# Altium integrated library Texas Instruments Power Management PWM Controller.IntLib: 1227 symbols (part 16 of 49)
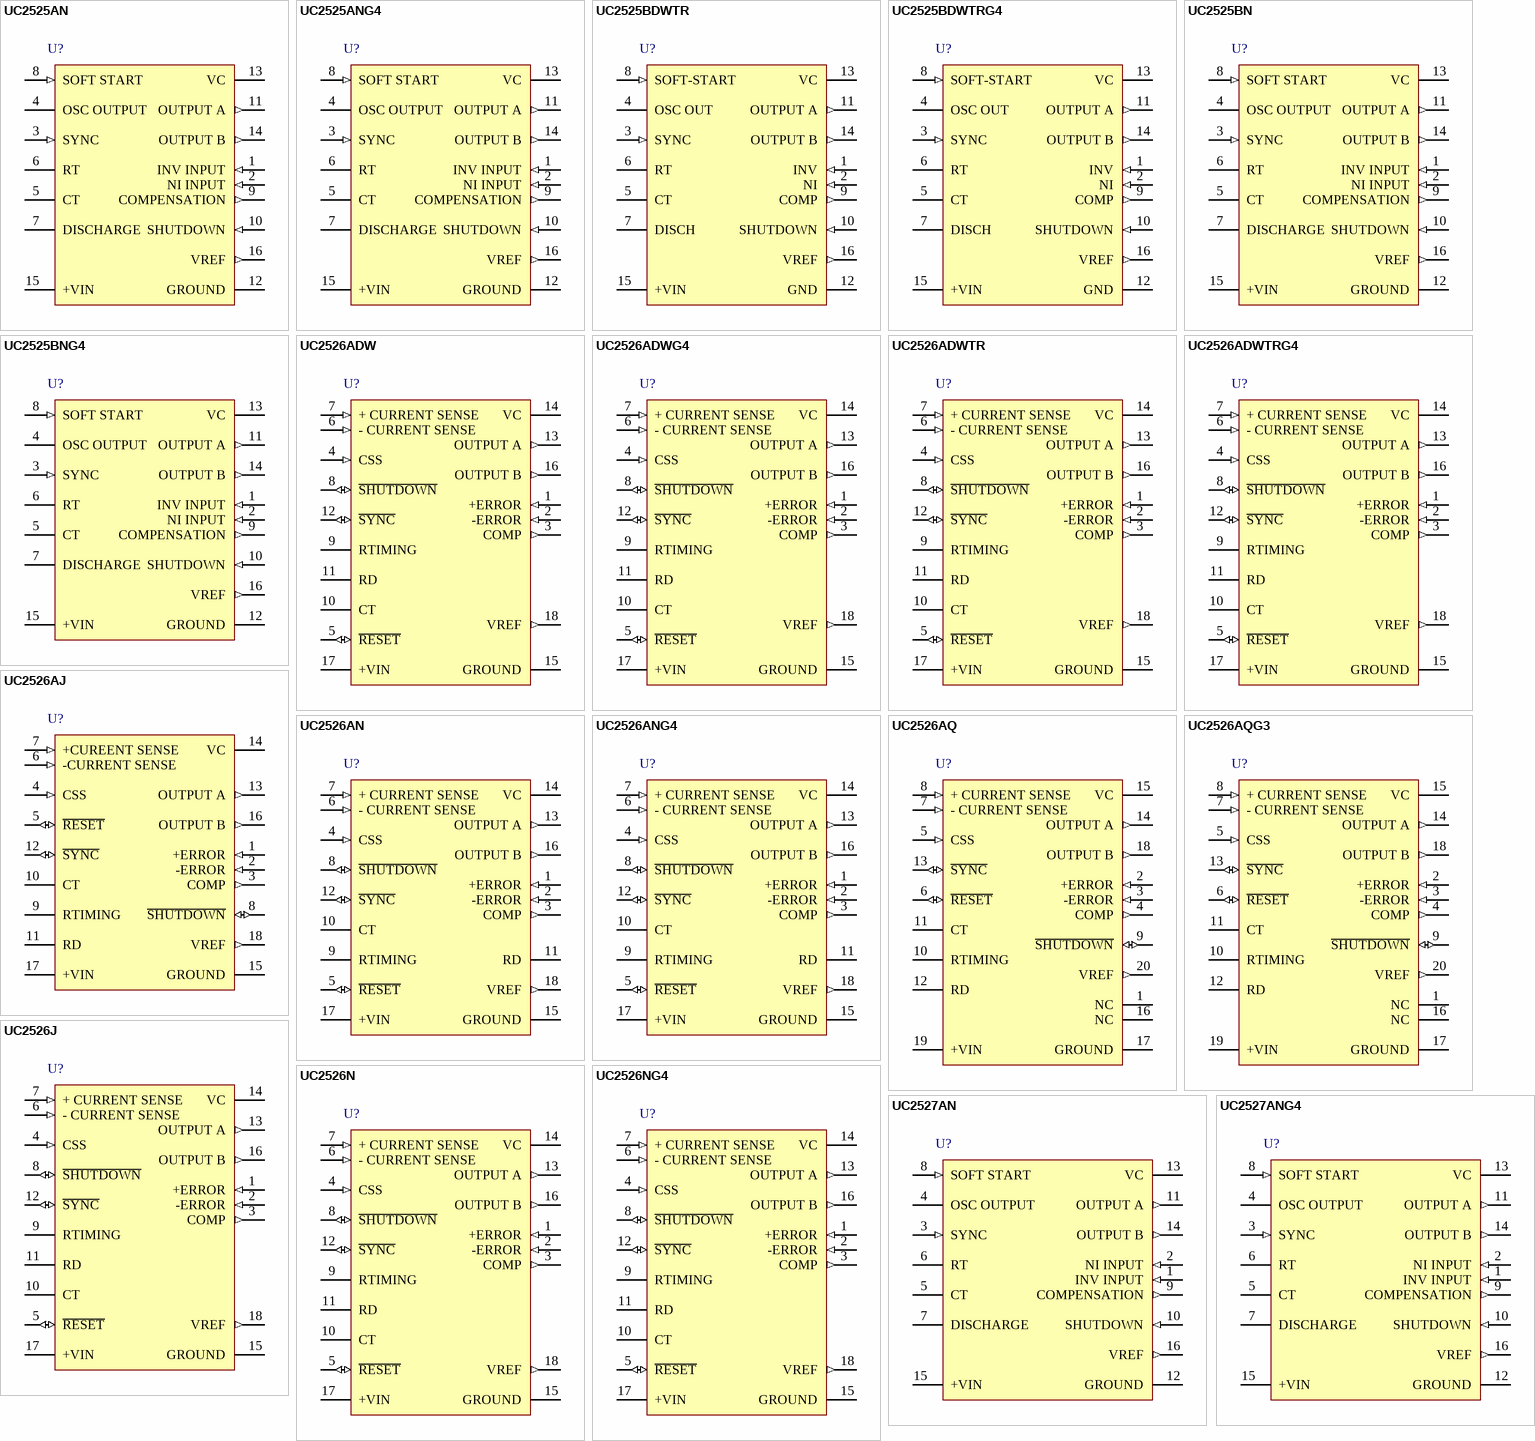
[diagram p58: symbols UC2525AN to UC2527ANG4]

## UC2525AN
designator U?
Regulating Pulse Width Modulator with Voltage Control, 50 % Duty Cycle, -25 to +85 degC, 16-pin PDIP (N), Green (RoHS & no Sb/Br); PartNumber: UC2525AN; Manufacturer: Texas Instruments; Duty Cycle(Max)(%): 50; Frequency(Max)(kHz): 450; Rating: Military; Regulated Outputs(#): 2; SubFamily: PWM Controller; Topology: Boost, Flyback, Forward, Full-Bridge, Half-Bridge, Push-Pull; DatasheetVersion: SLUS191C; PackageVersion: revE, Dec-2002; PackageReference: N16; PackageDescription: 16-Pin Plastic Dual-In-Line Package, Row Spacing 7.62 mm, Pitch 2.54 mm; Supplier 1: Digi-Key; Supplier Part Number 1: 296-11154-5-ND; Supplier 2: Farnell; Supplier Part Number 2: 1534732; Supplier 3: Newark; Supplier Part Number 3: 77C2790; Supplier 4: Mouser; Supplier Part Number 4: 595-UC2525AN; Control Method: Voltage; Eco-Plan: Green (RoHS & no Sb/Br); UVLO Thresholds On/Off(V): 7/6.8; Mounting Technology: Through Hole; Code_JEDEC: MS-001*; ComponentLink1Description: Datasheet; ComponentLink1URL: http://www.ti.com/general/docs/lit/getliterature.tsp?genericPartNumber=UC2525A&fileType=pdf
footprint N16 (DIP, 16-Leads, Row Spacing 7.62mm, Pitch 2.54mm, Body 19.3x6.4mm)
pins: 1 INV INPUT (in), 2 NI INPUT (in), 3 SYNC (in), 4 OSC OUTPUT, 5 CT, 6 RT, 7 DISCHARGE (oc), 8 SOFT START (in), 9 COMPENSATION (out), 10 SHUTDOWN (in), 11 OUTPUT A (out), 12 GROUND (power), 13 VC (power), 14 OUTPUT B (out), 15 +VIN (power), 16 VREF (out)

## UC2525ANG4
designator U?
Regulating Pulse Width Modulator with Voltage Control, 50 % Duty Cycle, -25 to +85 degC, 16-pin PDIP (N), Green (RoHS & no Sb/Br); PartNumber: UC2525ANG4; Manufacturer: Texas Instruments; Duty Cycle(Max)(%): 50; Frequency(Max)(kHz): 450; Rating: Military; Regulated Outputs(#): 2; SubFamily: PWM Controller; Topology: Boost, Flyback, Forward, Full-Bridge, Half-Bridge, Push-Pull; DatasheetVersion: SLUS191C; PackageVersion: revE, Dec-2002; PackageReference: N16; PackageDescription: 16-Pin Plastic Dual-In-Line Package, Row Spacing 7.62 mm, Pitch 2.54 mm; Supplier 1: Digi-Key; Supplier Part Number 1: UC2525ANG4-ND; Supplier 2: Farnell; Supplier Part Number 2: 1234761; Supplier 3: Newark; Supplier Part Number 3: 13M3363; Supplier 4: Newark; Supplier Part Number 4: 80K3524; Supplier 5: Mouser; Supplier Part Number 5: 595-UC2525ANG4; Control Method: Voltage; Eco-Plan: Green (RoHS & no Sb/Br); UVLO Thresholds On/Off(V): 7/6.8; Mounting Technology: Through Hole; Code_JEDEC: MS-001*; ComponentLink1Description: Datasheet; ComponentLink1URL: http://www.ti.com/general/docs/lit/getliterature.tsp?genericPartNumber=UC2525A&fileType=pdf
footprint N16 (DIP, 16-Leads, Row Spacing 7.62mm, Pitch 2.54mm, Body 19.3x6.4mm)
pins: 1 INV INPUT (in), 2 NI INPUT (in), 3 SYNC (in), 4 OSC OUTPUT, 5 CT, 6 RT, 7 DISCHARGE (oc), 8 SOFT START (in), 9 COMPENSATION (out), 10 SHUTDOWN (in), 11 OUTPUT A (out), 12 GROUND (power), 13 VC (power), 14 OUTPUT B (out), 15 +VIN (power), 16 VREF (out)

## UC2525BDWTR
designator U?
Regulating Pulse Width Modulator with Voltage Control, 50 % Duty Cycle, -25 to +85 degC, 16-pin SOIC (DW), Green (RoHS & no Sb/Br); PartNumber: UC2525BDWTR; Manufacturer: Texas Instruments; Duty Cycle(Max)(%): 50; Frequency(Max)(kHz): 450; Rating: Catalog; Regulated Outputs(#): 2; SubFamily: PWM Controller; Topology: Boost, Flyback, Forward, Full-Bridge, Half-Bridge, Push-Pull; DatasheetVersion: SLUS376; PackageVersion: revG, Jan-2011; PackageReference: DW16; PackageDescription: 16-Pin Small Outline Integrated Circuit, 10.3 x 7.5 mm, Pitch 1.27 mm Pitch; Supplier 1: Digi-Key; Supplier Part Number 1: UC2525BDWTR-ND; Supplier 2: Newark; Supplier Part Number 2: 77C2794; Supplier 3: Mouser; Supplier Part Number 3: 595-UC2525BDWTR; Control Method: Voltage; Eco-Plan: Green (RoHS & no Sb/Br); UVLO Thresholds On/Off(V): 7/6.8; Mounting Technology: Surface Mount; Code_JEDEC: MS-013-AA; ComponentLink1Description: Datasheet; ComponentLink1URL: http://www.ti.com/general/docs/lit/getliterature.tsp?genericPartNumber=UC2525B&fileType=pdf
footprint DW16_N (SOIC, 16-Leads, Body 10.3x7.5mm, Pitch 1.27mm, IPC Medium Density)
footprint DW16_L (SOIC, 16-Leads, Body 10.3x7.5mm, Pitch 1.27mm, IPC High Density)
footprint DW16_M (SOIC, 16-Leads, Body 10.3x7.5mm, Pitch 1.27mm, IPC Low Density)
pins: 1 INV (in), 2 NI (in), 3 SYNC (in), 4 OSC OUT, 5 CT, 6 RT, 7 DISCH (oc), 8 SOFT-START (in), 9 COMP (out), 10 SHUTDOWN (in), 11 OUTPUT A (out), 12 GND (power), 13 VC (power), 14 OUTPUT B (out), 15 +VIN (power), 16 VREF (out)

## UC2525BDWTRG4
designator U?
Regulating Pulse Width Modulator with Voltage Control, 50 % Duty Cycle, -25 to +85 degC, 16-pin SOIC (DW), Green (RoHS & no Sb/Br); PartNumber: UC2525BDWTRG4; Manufacturer: Texas Instruments; Duty Cycle(Max)(%): 50; Frequency(Max)(kHz): 450; Rating: Catalog; Regulated Outputs(#): 2; SubFamily: PWM Controller; Topology: Boost, Flyback, Forward, Full-Bridge, Half-Bridge, Push-Pull; DatasheetVersion: SLUS376; PackageVersion: revG, Jan-2011; PackageReference: DW16; PackageDescription: 16-Pin Small Outline Integrated Circuit, 10.3 x 7.5 mm, Pitch 1.27 mm Pitch; Supplier 1: Digi-Key; Supplier Part Number 1: UC2525BDWTRG4-ND; Supplier 2: Newark; Supplier Part Number 2: 63K6662; Supplier 3: Mouser; Supplier Part Number 3: 595-UC2525BDWTRG4; Control Method: Voltage; Eco-Plan: Green (RoHS & no Sb/Br); UVLO Thresholds On/Off(V): 7/6.8; Mounting Technology: Surface Mount; Code_JEDEC: MS-013-AA; ComponentLink1Description: Datasheet; ComponentLink1URL: http://www.ti.com/general/docs/lit/getliterature.tsp?genericPartNumber=UC2525B&fileType=pdf
footprint DW16_N (SOIC, 16-Leads, Body 10.3x7.5mm, Pitch 1.27mm, IPC Medium Density)
footprint DW16_L (SOIC, 16-Leads, Body 10.3x7.5mm, Pitch 1.27mm, IPC High Density)
footprint DW16_M (SOIC, 16-Leads, Body 10.3x7.5mm, Pitch 1.27mm, IPC Low Density)
pins: 1 INV (in), 2 NI (in), 3 SYNC (in), 4 OSC OUT, 5 CT, 6 RT, 7 DISCH (oc), 8 SOFT-START (in), 9 COMP (out), 10 SHUTDOWN (in), 11 OUTPUT A (out), 12 GND (power), 13 VC (power), 14 OUTPUT B (out), 15 +VIN (power), 16 VREF (out)

## UC2525BN
designator U?
Regulating Pulse Width Modulator with Voltage Control, 50 % Duty Cycle, -25 to +85 degC, 16-pin PDIP (N), Green (RoHS & no Sb/Br); PartNumber: UC2525BN; Manufacturer: Texas Instruments; Duty Cycle(Max)(%): 50; Frequency(Max)(kHz): 450; Rating: Military; Regulated Outputs(#): 2; SubFamily: PWM Controller; Topology: Boost, Flyback, Forward, Full-Bridge, Half-Bridge, Push-Pull; DatasheetVersion: SLUS191C; PackageVersion: revE, Dec-2002; PackageReference: N16; PackageDescription: 16-Pin Plastic Dual-In-Line Package, Row Spacing 7.62 mm, Pitch 2.54 mm; Supplier 1: Digi-Key; Supplier Part Number 1: 296-34703-5-ND; Supplier 2: Newark; Supplier Part Number 2: 77C2795; Supplier 3: Mouser; Supplier Part Number 3: 595-UC2525BN; Control Method: Voltage; Eco-Plan: Green (RoHS & no Sb/Br); UVLO Thresholds On/Off(V): 7/6.8; Mounting Technology: Through Hole; Code_JEDEC: MS-001*; ComponentLink1Description: Datasheet; ComponentLink1URL: http://www.ti.com/general/docs/lit/getliterature.tsp?genericPartNumber=UC2525A&fileType=pdf
footprint N16 (DIP, 16-Leads, Row Spacing 7.62mm, Pitch 2.54mm, Body 19.3x6.4mm)
pins: 1 INV INPUT (in), 2 NI INPUT (in), 3 SYNC (in), 4 OSC OUTPUT, 5 CT, 6 RT, 7 DISCHARGE (oc), 8 SOFT START (in), 9 COMPENSATION (out), 10 SHUTDOWN (in), 11 OUTPUT A (out), 12 GROUND (power), 13 VC (power), 14 OUTPUT B (out), 15 +VIN (power), 16 VREF (out)

## UC2525BNG4
designator U?
Regulating Pulse Width Modulator with Voltage Control, 50 % Duty Cycle, -25 to +85 degC, 16-pin PDIP (N), Green (RoHS & no Sb/Br); PartNumber: UC2525BNG4; Manufacturer: Texas Instruments; Duty Cycle(Max)(%): 50; Frequency(Max)(kHz): 450; Rating: Military; Regulated Outputs(#): 2; SubFamily: PWM Controller; Topology: Boost, Flyback, Forward, Full-Bridge, Half-Bridge, Push-Pull; DatasheetVersion: SLUS191C; PackageVersion: revE, Dec-2002; PackageReference: N16; PackageDescription: 16-Pin Plastic Dual-In-Line Package, Row Spacing 7.62 mm, Pitch 2.54 mm; Supplier 1: Digi-Key; Supplier Part Number 1: UC2525BNG4-ND; Supplier 2: Newark; Supplier Part Number 2: 54K2246; Supplier 3: Mouser; Supplier Part Number 3: 595-UC2525BNG4; Control Method: Voltage; Eco-Plan: Green (RoHS & no Sb/Br); UVLO Thresholds On/Off(V): 7/6.8; Mounting Technology: Through Hole; Code_JEDEC: MS-001*; ComponentLink1Description: Datasheet; ComponentLink1URL: http://www.ti.com/general/docs/lit/getliterature.tsp?genericPartNumber=UC2525A&fileType=pdf
footprint N16 (DIP, 16-Leads, Row Spacing 7.62mm, Pitch 2.54mm, Body 19.3x6.4mm)
pins: 1 INV INPUT (in), 2 NI INPUT (in), 3 SYNC (in), 4 OSC OUTPUT, 5 CT, 6 RT, 7 DISCHARGE (oc), 8 SOFT START (in), 9 COMPENSATION (out), 10 SHUTDOWN (in), 11 OUTPUT A (out), 12 GROUND (power), 13 VC (power), 14 OUTPUT B (out), 15 +VIN (power), 16 VREF (out)

## UC2526ADW
designator U?
Regulating Pulse Width Modulator with Voltage Control, 50 % Duty Cycle, -25 to +85 degC, 18-pin SOIC (DW), Green (RoHS & no Sb/Br); PartNumber: UC2526ADW; Manufacturer: Texas Instruments; Duty Cycle(Max)(%): 50; Frequency(Max)(kHz): 450; Rating: Military; Regulated Outputs(#): 2; SubFamily: PWM Controller; Topology: Boost, Flyback, Forward, Full-Bridge, Half-Bridge, Push-Pull; DatasheetVersion: SLUS187; PackageVersion: revG, Jan-2011; PackageReference: DW18; PackageDescription: 18-Pin Plastic Small Outline Integrated Circuit, 11.6 x 7.5 mm, Pitch 1.27 mm Pitch; Supplier 1: Digi-Key; Supplier Part Number 1: 296-11155-5-ND; Supplier 2: Newark; Supplier Part Number 2: 77C2796; Supplier 3: Mouser; Supplier Part Number 3: 595-UC2526ADW; Control Method: Voltage; Eco-Plan: Green (RoHS & no Sb/Br); UVLO Thresholds On/Off(V): 7/6.8; Mounting Technology: Surface Mount; Code_JEDEC: MS-013-AB; ComponentLink1Description: Datasheet; ComponentLink1URL: http://www.ti.com/general/docs/lit/getliterature.tsp?genericPartNumber=UC2526A&fileType=pdf
footprint DW18_N (SOIC, 18-Leads, Body 11.6x7.5mm, Pitch 1.27mm, IPC Medium Density)
footprint DW18_L (SOIC, 18-Leads, Body 11.6x7.5mm, Pitch 1.27mm, IPC High Density)
footprint DW18_M (SOIC, 18-Leads, Body 11.6x7.5mm, Pitch 1.27mm, IPC Low Density)
pins: 1 +ERROR (in), 2 -ERROR (in), 3 COMP (out), 4 CSS (in), 5 ~{RESET} (io), 6 - CURRENT SENSE (in), 7 + CURRENT SENSE (in), 8 ~{SHUTDOWN} (io), 9 RTIMING, 10 CT, 11 RD, 12 ~{SYNC} (io), 13 OUTPUT A (out), 14 VC (power), 15 GROUND (power), 16 OUTPUT B (out), 17 +VIN (power), 18 VREF (out)

## UC2526ADWG4
designator U?
Regulating Pulse Width Modulator with Voltage Control, 50 % Duty Cycle, -25 to +85 degC, 18-pin SOIC (DW), Green (RoHS & no Sb/Br); PartNumber: UC2526ADWG4; Manufacturer: Texas Instruments; Duty Cycle(Max)(%): 50; Frequency(Max)(kHz): 450; Rating: Military; Regulated Outputs(#): 2; SubFamily: PWM Controller; Topology: Boost, Flyback, Forward, Full-Bridge, Half-Bridge, Push-Pull; DatasheetVersion: SLUS187; PackageVersion: revG, Jan-2011; PackageReference: DW18; PackageDescription: 18-Pin Plastic Small Outline Integrated Circuit, 11.6 x 7.5 mm, Pitch 1.27 mm Pitch; Supplier 1: Digi-Key; Supplier Part Number 1: UC2526ADWG4-ND; Supplier 2: Farnell; Supplier Part Number 2: 1235018; Supplier 3: Newark; Supplier Part Number 3: 13M3364; Supplier 4: Newark; Supplier Part Number 4: 73K9687; Supplier 5: Mouser; Supplier Part Number 5: 595-UC2526ADWG4; Control Method: Voltage; Eco-Plan: Green (RoHS & no Sb/Br); UVLO Thresholds On/Off(V): 7/6.8; Mounting Technology: Surface Mount; Code_JEDEC: MS-013-AB; ComponentLink1Description: Datasheet; ComponentLink1URL: http://www.ti.com/general/docs/lit/getliterature.tsp?genericPartNumber=UC2526A&fileType=pdf
footprint DW18_N (SOIC, 18-Leads, Body 11.6x7.5mm, Pitch 1.27mm, IPC Medium Density)
footprint DW18_L (SOIC, 18-Leads, Body 11.6x7.5mm, Pitch 1.27mm, IPC High Density)
footprint DW18_M (SOIC, 18-Leads, Body 11.6x7.5mm, Pitch 1.27mm, IPC Low Density)
pins: 1 +ERROR (in), 2 -ERROR (in), 3 COMP (out), 4 CSS (in), 5 ~{RESET} (io), 6 - CURRENT SENSE (in), 7 + CURRENT SENSE (in), 8 ~{SHUTDOWN} (io), 9 RTIMING, 10 CT, 11 RD, 12 ~{SYNC} (io), 13 OUTPUT A (out), 14 VC (power), 15 GROUND (power), 16 OUTPUT B (out), 17 +VIN (power), 18 VREF (out)

## UC2526ADWTR
designator U?
Regulating Pulse Width Modulator with Voltage Control, 50 % Duty Cycle, -25 to +85 degC, 18-pin SOIC (DW), Green (RoHS & no Sb/Br); PartNumber: UC2526ADWTR; Manufacturer: Texas Instruments; Duty Cycle(Max)(%): 50; Frequency(Max)(kHz): 450; Rating: Military; Regulated Outputs(#): 2; SubFamily: PWM Controller; Topology: Boost, Flyback, Forward, Full-Bridge, Half-Bridge, Push-Pull; DatasheetVersion: SLUS187; PackageVersion: revG, Jan-2011; PackageReference: DW18; PackageDescription: 18-Pin Plastic Small Outline Integrated Circuit, 11.6 x 7.5 mm, Pitch 1.27 mm Pitch; Supplier 1: Digi-Key; Supplier Part Number 1: UC2526ADWTR-ND; Supplier 2: Newark; Supplier Part Number 2: 77C2797; Supplier 3: Mouser; Supplier Part Number 3: 595-UC2526ADWTR; Control Method: Voltage; Eco-Plan: Green (RoHS & no Sb/Br); UVLO Thresholds On/Off(V): 7/6.8; Mounting Technology: Surface Mount; Code_JEDEC: MS-013-AB; ComponentLink1Description: Datasheet; ComponentLink1URL: http://www.ti.com/general/docs/lit/getliterature.tsp?genericPartNumber=UC2526A&fileType=pdf
footprint DW18_N (SOIC, 18-Leads, Body 11.6x7.5mm, Pitch 1.27mm, IPC Medium Density)
footprint DW18_L (SOIC, 18-Leads, Body 11.6x7.5mm, Pitch 1.27mm, IPC High Density)
footprint DW18_M (SOIC, 18-Leads, Body 11.6x7.5mm, Pitch 1.27mm, IPC Low Density)
pins: 1 +ERROR (in), 2 -ERROR (in), 3 COMP (out), 4 CSS (in), 5 ~{RESET} (io), 6 - CURRENT SENSE (in), 7 + CURRENT SENSE (in), 8 ~{SHUTDOWN} (io), 9 RTIMING, 10 CT, 11 RD, 12 ~{SYNC} (io), 13 OUTPUT A (out), 14 VC (power), 15 GROUND (power), 16 OUTPUT B (out), 17 +VIN (power), 18 VREF (out)

## UC2526ADWTRG4
designator U?
Regulating Pulse Width Modulator with Voltage Control, 50 % Duty Cycle, -25 to +85 degC, 18-pin SOIC (DW), Green (RoHS & no Sb/Br); PartNumber: UC2526ADWTRG4; Manufacturer: Texas Instruments; Duty Cycle(Max)(%): 50; Frequency(Max)(kHz): 450; Rating: Military; Regulated Outputs(#): 2; SubFamily: PWM Controller; Topology: Boost, Flyback, Forward, Full-Bridge, Half-Bridge, Push-Pull; DatasheetVersion: SLUS187; PackageVersion: revG, Jan-2011; PackageReference: DW18; PackageDescription: 18-Pin Plastic Small Outline Integrated Circuit, 11.6 x 7.5 mm, Pitch 1.27 mm Pitch; Supplier 1: Digi-Key; Supplier Part Number 1: UC2526ADWTRG4-ND; Supplier 2: Newark; Supplier Part Number 2: 66K4892; Supplier 3: Mouser; Supplier Part Number 3: 595-UC2526ADWTRG4; Control Method: Voltage; Eco-Plan: Green (RoHS & no Sb/Br); UVLO Thresholds On/Off(V): 7/6.8; Mounting Technology: Surface Mount; Code_JEDEC: MS-013-AB; ComponentLink1Description: Datasheet; ComponentLink1URL: http://www.ti.com/general/docs/lit/getliterature.tsp?genericPartNumber=UC2526A&fileType=pdf
footprint DW18_N (SOIC, 18-Leads, Body 11.6x7.5mm, Pitch 1.27mm, IPC Medium Density)
footprint DW18_L (SOIC, 18-Leads, Body 11.6x7.5mm, Pitch 1.27mm, IPC High Density)
footprint DW18_M (SOIC, 18-Leads, Body 11.6x7.5mm, Pitch 1.27mm, IPC Low Density)
pins: 1 +ERROR (in), 2 -ERROR (in), 3 COMP (out), 4 CSS (in), 5 ~{RESET} (io), 6 - CURRENT SENSE (in), 7 + CURRENT SENSE (in), 8 ~{SHUTDOWN} (io), 9 RTIMING, 10 CT, 11 RD, 12 ~{SYNC} (io), 13 OUTPUT A (out), 14 VC (power), 15 GROUND (power), 16 OUTPUT B (out), 17 +VIN (power), 18 VREF (out)

## UC2526AJ
designator U?
Regulating Pulse Width Modulator with Voltage Control, 50 % Duty Cycle, -25 to +85 degC, 18-pin CDIP (J); PartNumber: UC2526AJ; Manufacturer: Texas Instruments; Duty Cycle(Max)(%): 50; Eco-Plan: TBD; Frequency(Max)(kHz): 450; Rating: Military; Regulated Outputs(#): 2; SubFamily: PWM Controller; Topology: Boost, Flyback, Forward, Full-Bridge, Half-Bridge, Push-Pull; DatasheetVersion: SLUS185; PackageVersion: revF, Mar-2003; PackageReference: J18; PackageDescription: 18-Pin, Ceramic Dual In-Line Package, Row Spacing 7.62 mm, Pitch 2.54 mm; Control Method: Voltage; UVLO Thresholds On/Off(V): 7/6.8; Mounting Technology: Through Hole; ComponentLink1Description: Datasheet; ComponentLink1URL: http://www.ti.com/general/docs/lit/getliterature.tsp?genericPartNumber=UC2526AM&fileType=pdf
footprint J18 (DIP, 18-Leads, Row Spacing 7.62mm, Pitch 2.54mm, Body 24.1x6.7mm)
pins: 1 +ERROR (in), 2 -ERROR (in), 3 COMP (out), 4 CSS (in), 5 ~{RESET} (io), 6 -CURRENT SENSE (in), 7 +CUREENT SENSE (in), 8 ~{SHUTDOWN} (io), 9 RTIMING, 10 CT, 11 RD, 12 ~{SYNC} (io), 13 OUTPUT A (out), 14 VC (power), 15 GROUND (power), 16 OUTPUT B (out), 17 +VIN (power), 18 VREF (out)

## UC2526AN
designator U?
Regulating Pulse Width Modulator with Voltage Control, 50 % Duty Cycle, -25 to +85 degC, 18-pin PDIP (N), Green (RoHS & no Sb/Br); PartNumber: UC2526AN; Manufacturer: Texas Instruments; Duty Cycle(Max)(%): 50; Frequency(Max)(kHz): 450; Rating: Military; Regulated Outputs(#): 2; SubFamily: PWM Controller; Topology: Boost, Flyback, Forward, Full-Bridge, Half-Bridge, Push-Pull; DatasheetVersion: SLUS187; PackageVersion: revE, Dec-2002; PackageReference: N18; PackageDescription: 18-Pin Plastic Dual-In-Line Package, Row Spacing 7.62 mm, Pitch 2.54 mm; Supplier 1: Digi-Key; Supplier Part Number 1: 296-11156-5-ND; Supplier 2: Newark; Supplier Part Number 2: 77C2798; Supplier 3: Mouser; Supplier Part Number 3: 595-UC2526AN; Control Method: Voltage; Eco-Plan: Green (RoHS & no Sb/Br); UVLO Thresholds On/Off(V): 7/6.8; Mounting Technology: Through Hole; Code_JEDEC: MS-001-AC*; ComponentLink1Description: Datasheet; ComponentLink1URL: http://www.ti.com/general/docs/lit/getliterature.tsp?genericPartNumber=UC2526A&fileType=pdf
footprint N18 (DIP, 18-Leads, Row Spacing 7.62mm, Pitch 2.54mm, Body 22.5x6.4mm)
pins: 1 +ERROR (in), 2 -ERROR (in), 3 COMP (out), 4 CSS (in), 5 ~{RESET} (io), 6 - CURRENT SENSE (in), 7 + CURRENT SENSE (in), 8 ~{SHUTDOWN} (io), 9 RTIMING, 10 CT, 11 RD, 12 ~{SYNC} (io), 13 OUTPUT A (out), 14 VC (power), 15 GROUND (power), 16 OUTPUT B (out), 17 +VIN (power), 18 VREF (out)

## UC2526ANG4
designator U?
Regulating Pulse Width Modulator with Voltage Control, 50 % Duty Cycle, -25 to +85 degC, 18-pin PDIP (N), Green (RoHS & no Sb/Br); PartNumber: UC2526ANG4; Manufacturer: Texas Instruments; Duty Cycle(Max)(%): 50; Frequency(Max)(kHz): 450; Rating: Military; Regulated Outputs(#): 2; SubFamily: PWM Controller; Topology: Boost, Flyback, Forward, Full-Bridge, Half-Bridge, Push-Pull; DatasheetVersion: SLUS187; PackageVersion: revE, Dec-2002; PackageReference: N18; PackageDescription: 18-Pin Plastic Dual-In-Line Package, Row Spacing 7.62 mm, Pitch 2.54 mm; Supplier 1: Digi-Key; Supplier Part Number 1: UC2526ANG4-ND; Supplier 2: Farnell; Supplier Part Number 2: 1234774; Supplier 3: Newark; Supplier Part Number 3: 13M3365; Supplier 4: Newark; Supplier Part Number 4: 54K2247; Supplier 5: Mouser; Supplier Part Number 5: 595-UC2526ANG4; Control Method: Voltage; Eco-Plan: Green (RoHS & no Sb/Br); UVLO Thresholds On/Off(V): 7/6.8; Mounting Technology: Through Hole; Code_JEDEC: MS-001-AC*; ComponentLink1Description: Datasheet; ComponentLink1URL: http://www.ti.com/general/docs/lit/getliterature.tsp?genericPartNumber=UC2526A&fileType=pdf
footprint N18 (DIP, 18-Leads, Row Spacing 7.62mm, Pitch 2.54mm, Body 22.5x6.4mm)
pins: 1 +ERROR (in), 2 -ERROR (in), 3 COMP (out), 4 CSS (in), 5 ~{RESET} (io), 6 - CURRENT SENSE (in), 7 + CURRENT SENSE (in), 8 ~{SHUTDOWN} (io), 9 RTIMING, 10 CT, 11 RD, 12 ~{SYNC} (io), 13 OUTPUT A (out), 14 VC (power), 15 GROUND (power), 16 OUTPUT B (out), 17 +VIN (power), 18 VREF (out)

## UC2526AQ
designator U?
Regulating Pulse Width Modulator with Voltage Control, 50 % Duty Cycle, -25 to +85 degC, 18-pin PLCC (FN), Green (RoHS & no Sb/Br); PartNumber: UC2526AQ; Manufacturer: Texas Instruments; Duty Cycle(Max)(%): 50; Frequency(Max)(kHz): 450; Rating: Military; Regulated Outputs(#): 2; SubFamily: PWM Controller; Topology: Boost, Flyback, Forward, Full-Bridge, Half-Bridge, Push-Pull; DatasheetVersion: SLUS187; PackageVersion: revB, Mar-1995; PackageReference: FN20; PackageDescription: 20-Pin Plastic Leaded Chip Carrier, 1.27 mm Pitch; Supplier 1: Digi-Key; Supplier Part Number 1: UC2526AQ-ND; Supplier 2: Newark; Supplier Part Number 2: 77C2799; Supplier 3: Mouser; Supplier Part Number 3: 595-UC2526AQ; Control Method: Voltage; Eco-Plan: Green (RoHS & no Sb/Br); UVLO Thresholds On/Off(V): 7/6.8; Mounting Technology: Surface Mount; Code_JEDEC: MS-018; ComponentLink1Description: Datasheet; ComponentLink1URL: http://www.ti.com/general/docs/lit/getliterature.tsp?genericPartNumber=UC2526A&fileType=pdf
footprint FN20_N (Leaded Chip Carrier, 20-Leads, Body 9x9mm, Pitch 1.27mm, IPC Medium Density)
footprint FN20_L (Leaded Chip Carrier, 20-Leads, Body 9x9mm, Pitch 1.27mm, IPC High Density)
footprint FN20_M (Leaded Chip Carrier, 20-Leads, Body 9x9mm, Pitch 1.27mm, IPC Low Density)
pins: 1 NC, 2 +ERROR (in), 3 -ERROR (in), 4 COMP (out), 5 CSS (in), 6 ~{RESET} (io), 7 - CURRENT SENSE (in), 8 + CURRENT SENSE (in), 9 ~{SHUTDOWN} (io), 10 RTIMING, 11 CT, 12 RD, 13 ~{SYNC} (io), 14 OUTPUT A (out), 15 VC (power), 16 NC, 17 GROUND (power), 18 OUTPUT B (out), 19 +VIN (power), 20 VREF (out)

## UC2526AQG3
designator U?
Regulating Pulse Width Modulator with Voltage Control, 50 % Duty Cycle, -25 to +85 degC, 20-pin PLCC (FN), Green (RoHS & no Sb/Br); PartNumber: UC2526AQG3; Manufacturer: Texas Instruments; Duty Cycle(Max)(%): 50; Frequency(Max)(kHz): 450; Rating: Military; Regulated Outputs(#): 2; SubFamily: PWM Controller; Topology: Boost, Flyback, Forward, Full-Bridge, Half-Bridge, Push-Pull; DatasheetVersion: SLUS187; PackageVersion: revB, Mar-1995; PackageReference: FN20; PackageDescription: 20-Pin Plastic Leaded Chip Carrier, 1.27 mm Pitch; Supplier 1: Digi-Key; Supplier Part Number 1: UC2526AQG3-ND; Supplier 2: Newark; Supplier Part Number 2: 70K5947; Supplier 3: Mouser; Supplier Part Number 3: 595-UC2526AQG3; Control Method: Voltage; Eco-Plan: Green (RoHS & no Sb/Br); UVLO Thresholds On/Off(V): 7/6.8; Mounting Technology: Surface Mount; Code_JEDEC: MS-018; ComponentLink1Description: Datasheet; ComponentLink1URL: http://www.ti.com/general/docs/lit/getliterature.tsp?genericPartNumber=UC2526A&fileType=pdf
footprint FN20_N (Leaded Chip Carrier, 20-Leads, Body 9x9mm, Pitch 1.27mm, IPC Medium Density)
footprint FN20_L (Leaded Chip Carrier, 20-Leads, Body 9x9mm, Pitch 1.27mm, IPC High Density)
footprint FN20_M (Leaded Chip Carrier, 20-Leads, Body 9x9mm, Pitch 1.27mm, IPC Low Density)
pins: 1 NC, 2 +ERROR (in), 3 -ERROR (in), 4 COMP (out), 5 CSS (in), 6 ~{RESET} (io), 7 - CURRENT SENSE (in), 8 + CURRENT SENSE (in), 9 ~{SHUTDOWN} (io), 10 RTIMING, 11 CT, 12 RD, 13 ~{SYNC} (io), 14 OUTPUT A (out), 15 VC (power), 16 NC, 17 GROUND (power), 18 OUTPUT B (out), 19 +VIN (power), 20 VREF (out)

## UC2526J
designator U?
Regulating Pulse Width Modulator with Voltage Control, 50 % Duty Cycle, -25 to +85 degC, 18-pin CDIP (J); PartNumber: UC2526J; Manufacturer: Texas Instruments; Duty Cycle(Max)(%): 50; Eco-Plan: TBD; Frequency(Max)(kHz): 450; Rating: military; Regulated Outputs(#): 2; SubFamily: PWM Controller; Topology: Boost, Flyback, Forward, Full-Bridge, Half-Bridge, Push-Pull; DatasheetVersion: SLUS187; PackageVersion: revF, Mar-2003; PackageReference: J18; PackageDescription: 18-Pin, Ceramic Dual In-Line Package, Row Spacing 7.62 mm, Pitch 2.54 mm; Control Method: Voltage; UVLO Thresholds On/Off(V): 7/6.8; Mounting Technology: Through Hole; ComponentLink1Description: Datasheet; ComponentLink1URL: http://www.ti.com/general/docs/lit/getliterature.tsp?genericPartNumber=UC2526M&fileType=pdf
footprint J18 (DIP, 18-Leads, Row Spacing 7.62mm, Pitch 2.54mm, Body 24.1x6.7mm)
pins: 1 +ERROR (in), 2 -ERROR (in), 3 COMP (out), 4 CSS (in), 5 ~{RESET} (io), 6 - CURRENT SENSE (in), 7 + CURRENT SENSE (in), 8 ~{SHUTDOWN} (io), 9 RTIMING, 10 CT, 11 RD, 12 ~{SYNC} (io), 13 OUTPUT A (out), 14 VC (power), 15 GROUND (power), 16 OUTPUT B (out), 17 +VIN (power), 18 VREF (out)

## UC2526N
designator U?
Regulating Pulse Width Modulator with Voltage Control, 50 % Duty Cycle, -25 to +85 degC, 18-pin PDIP (N), Green (RoHS & no Sb/Br); PartNumber: UC2526N; Manufacturer: Texas Instruments; Duty Cycle(Max)(%): 50; Frequency(Max)(kHz): 450; Rating: Catalog; Regulated Outputs(#): 2; SubFamily: PWM Controller; Topology: Boost, Flyback, Forward, Full-Bridge, Half-Bridge, Push-Pull; DatasheetVersion: SLUS185; PackageVersion: revE, Dec-2002; PackageReference: N18; PackageDescription: 18-Pin Plastic Dual-In-Line Package, Row Spacing 7.62 mm, Pitch 2.54 mm; Supplier 1: Digi-Key; Supplier Part Number 1: 296-34704-5-ND; Supplier 2: Newark; Supplier Part Number 2: 77C2802; Supplier 3: Mouser; Supplier Part Number 3: 595-UC2526N; Control Method: Voltage; Eco-Plan: Green (RoHS & no Sb/Br); UVLO Thresholds On/Off(V): 7/6.8; Mounting Technology: Through Hole; Code_JEDEC: MS-001-AC*; ComponentLink1Description: Datasheet; ComponentLink1URL: http://www.ti.com/general/docs/lit/getliterature.tsp?genericPartNumber=UC2526&fileType=pdf
footprint N18 (DIP, 18-Leads, Row Spacing 7.62mm, Pitch 2.54mm, Body 22.5x6.4mm)
pins: 1 +ERROR (in), 2 -ERROR (in), 3 COMP (out), 4 CSS (in), 5 ~{RESET} (io), 6 - CURRENT SENSE (in), 7 + CURRENT SENSE (in), 8 ~{SHUTDOWN} (io), 9 RTIMING, 10 CT, 11 RD, 12 ~{SYNC} (io), 13 OUTPUT A (out), 14 VC (power), 15 GROUND (power), 16 OUTPUT B (out), 17 +VIN (power), 18 VREF (out)

## UC2526NG4
designator U?
Regulating Pulse Width Modulator with Voltage Control, 50 % Duty Cycle, -25 to +85 degC, 18-pin PDIP (N), Green (RoHS & no Sb/Br); PartNumber: UC2526NG4; Manufacturer: Texas Instruments; Duty Cycle(Max)(%): 50; Frequency(Max)(kHz): 450; Rating: Catalog; Regulated Outputs(#): 2; SubFamily: PWM Controller; Topology: Boost, Flyback, Forward, Full-Bridge, Half-Bridge, Push-Pull; DatasheetVersion: SLUS185; PackageVersion: revE, Dec-2002; PackageReference: N18; PackageDescription: 18-Pin Plastic Dual-In-Line Package, Row Spacing 7.62 mm, Pitch 2.54 mm; Supplier 1: Digi-Key; Supplier Part Number 1: UC2526NG4-ND; Supplier 2: Newark; Supplier Part Number 2: 54K2248; Supplier 3: Mouser; Supplier Part Number 3: 595-UC2526NG4; Control Method: Voltage; Eco-Plan: Green (RoHS & no Sb/Br); UVLO Thresholds On/Off(V): 7/6.8; Mounting Technology: Through Hole; Code_JEDEC: MS-001-AC*; ComponentLink1Description: Datasheet; ComponentLink1URL: http://www.ti.com/general/docs/lit/getliterature.tsp?genericPartNumber=UC2526&fileType=pdf
footprint N18 (DIP, 18-Leads, Row Spacing 7.62mm, Pitch 2.54mm, Body 22.5x6.4mm)
pins: 1 +ERROR (in), 2 -ERROR (in), 3 COMP (out), 4 CSS (in), 5 ~{RESET} (io), 6 - CURRENT SENSE (in), 7 + CURRENT SENSE (in), 8 ~{SHUTDOWN} (io), 9 RTIMING, 10 CT, 11 RD, 12 ~{SYNC} (io), 13 OUTPUT A (out), 14 VC (power), 15 GROUND (power), 16 OUTPUT B (out), 17 +VIN (power), 18 VREF (out)

## UC2527AN
designator U?
Regulating Pulse Width Modulator with Voltage Control, 50 % Duty Cycle, -40 to +85 degC, 16-pin PDIP (N), Green (RoHS & no Sb/Br); PartNumber: UC2527AN; Manufacturer: Texas Instruments; Duty Cycle(Max)(%): 50; Frequency(Max)(kHz): 450; Rating: Catalog; Regulated Outputs(#): 2; SubFamily: PWM Controller; Topology: Boost, Flyback, Forward, Full-Bridge, Half-Bridge, Push-Pull; DatasheetVersion: SLUS191C; PackageVersion: revE, Dec-2002; PackageReference: N16; PackageDescription: 16-Pin Plastic Dual-In-Line Package, Row Spacing 7.62 mm, Pitch 2.54 mm; Supplier 1: Digi-Key; Supplier Part Number 1: 296-34705-5-ND; Supplier 2: Newark; Supplier Part Number 2: 77C2805; Supplier 3: Mouser; Supplier Part Number 3: 595-UC2527AN; Control Method: Voltage; Eco-Plan: Green (RoHS & no Sb/Br); UVLO Thresholds On/Off(V): 7/6.8; Mounting Technology: Through Hole; Code_JEDEC: MS-001*; ComponentLink1Description: Datasheet; ComponentLink1URL: http://www.ti.com/general/docs/lit/getliterature.tsp?genericPartNumber=UC2527A&fileType=pdf
footprint N16 (DIP, 16-Leads, Row Spacing 7.62mm, Pitch 2.54mm, Body 19.3x6.4mm)
pins: 1 INV INPUT (in), 2 NI INPUT (in), 3 SYNC (in), 4 OSC OUTPUT, 5 CT, 6 RT, 7 DISCHARGE (oc), 8 SOFT START (in), 9 COMPENSATION (out), 10 SHUTDOWN (in), 11 OUTPUT A (out), 12 GROUND (power), 13 VC (power), 14 OUTPUT B (out), 15 +VIN (power), 16 VREF (out)

## UC2527ANG4
designator U?
Regulating Pulse Width Modulator with Voltage Control, 50 % Duty Cycle, -40 to +85 degC, 16-pin PDIP (N), Green (RoHS & no Sb/Br); PartNumber: UC2527ANG4; Manufacturer: Texas Instruments; Duty Cycle(Max)(%): 50; Frequency(Max)(kHz): 450; Rating: Catalog; Regulated Outputs(#): 2; SubFamily: PWM Controller; Topology: Boost, Flyback, Forward, Full-Bridge, Half-Bridge, Push-Pull; DatasheetVersion: SLUS191C; PackageVersion: revE, Dec-2002; PackageReference: N16; PackageDescription: 16-Pin Plastic Dual-In-Line Package, Row Spacing 7.62 mm, Pitch 2.54 mm; Supplier 1: Digi-Key; Supplier Part Number 1: UC2527ANG4-ND; Supplier 2: Newark; Supplier Part Number 2: 67K8810; Supplier 3: Mouser; Supplier Part Number 3: 595-UC2527ANG4; Control Method: Voltage; Eco-Plan: Green (RoHS & no Sb/Br); UVLO Thresholds On/Off(V): 7/6.8; Mounting Technology: Through Hole; Code_JEDEC: MS-001*; ComponentLink1Description: Datasheet; ComponentLink1URL: http://www.ti.com/general/docs/lit/getliterature.tsp?genericPartNumber=UC2527A&fileType=pdf
footprint N16 (DIP, 16-Leads, Row Spacing 7.62mm, Pitch 2.54mm, Body 19.3x6.4mm)
pins: 1 INV INPUT (in), 2 NI INPUT (in), 3 SYNC (in), 4 OSC OUTPUT, 5 CT, 6 RT, 7 DISCHARGE (oc), 8 SOFT START (in), 9 COMPENSATION (out), 10 SHUTDOWN (in), 11 OUTPUT A (out), 12 GROUND (power), 13 VC (power), 14 OUTPUT B (out), 15 +VIN (power), 16 VREF (out)

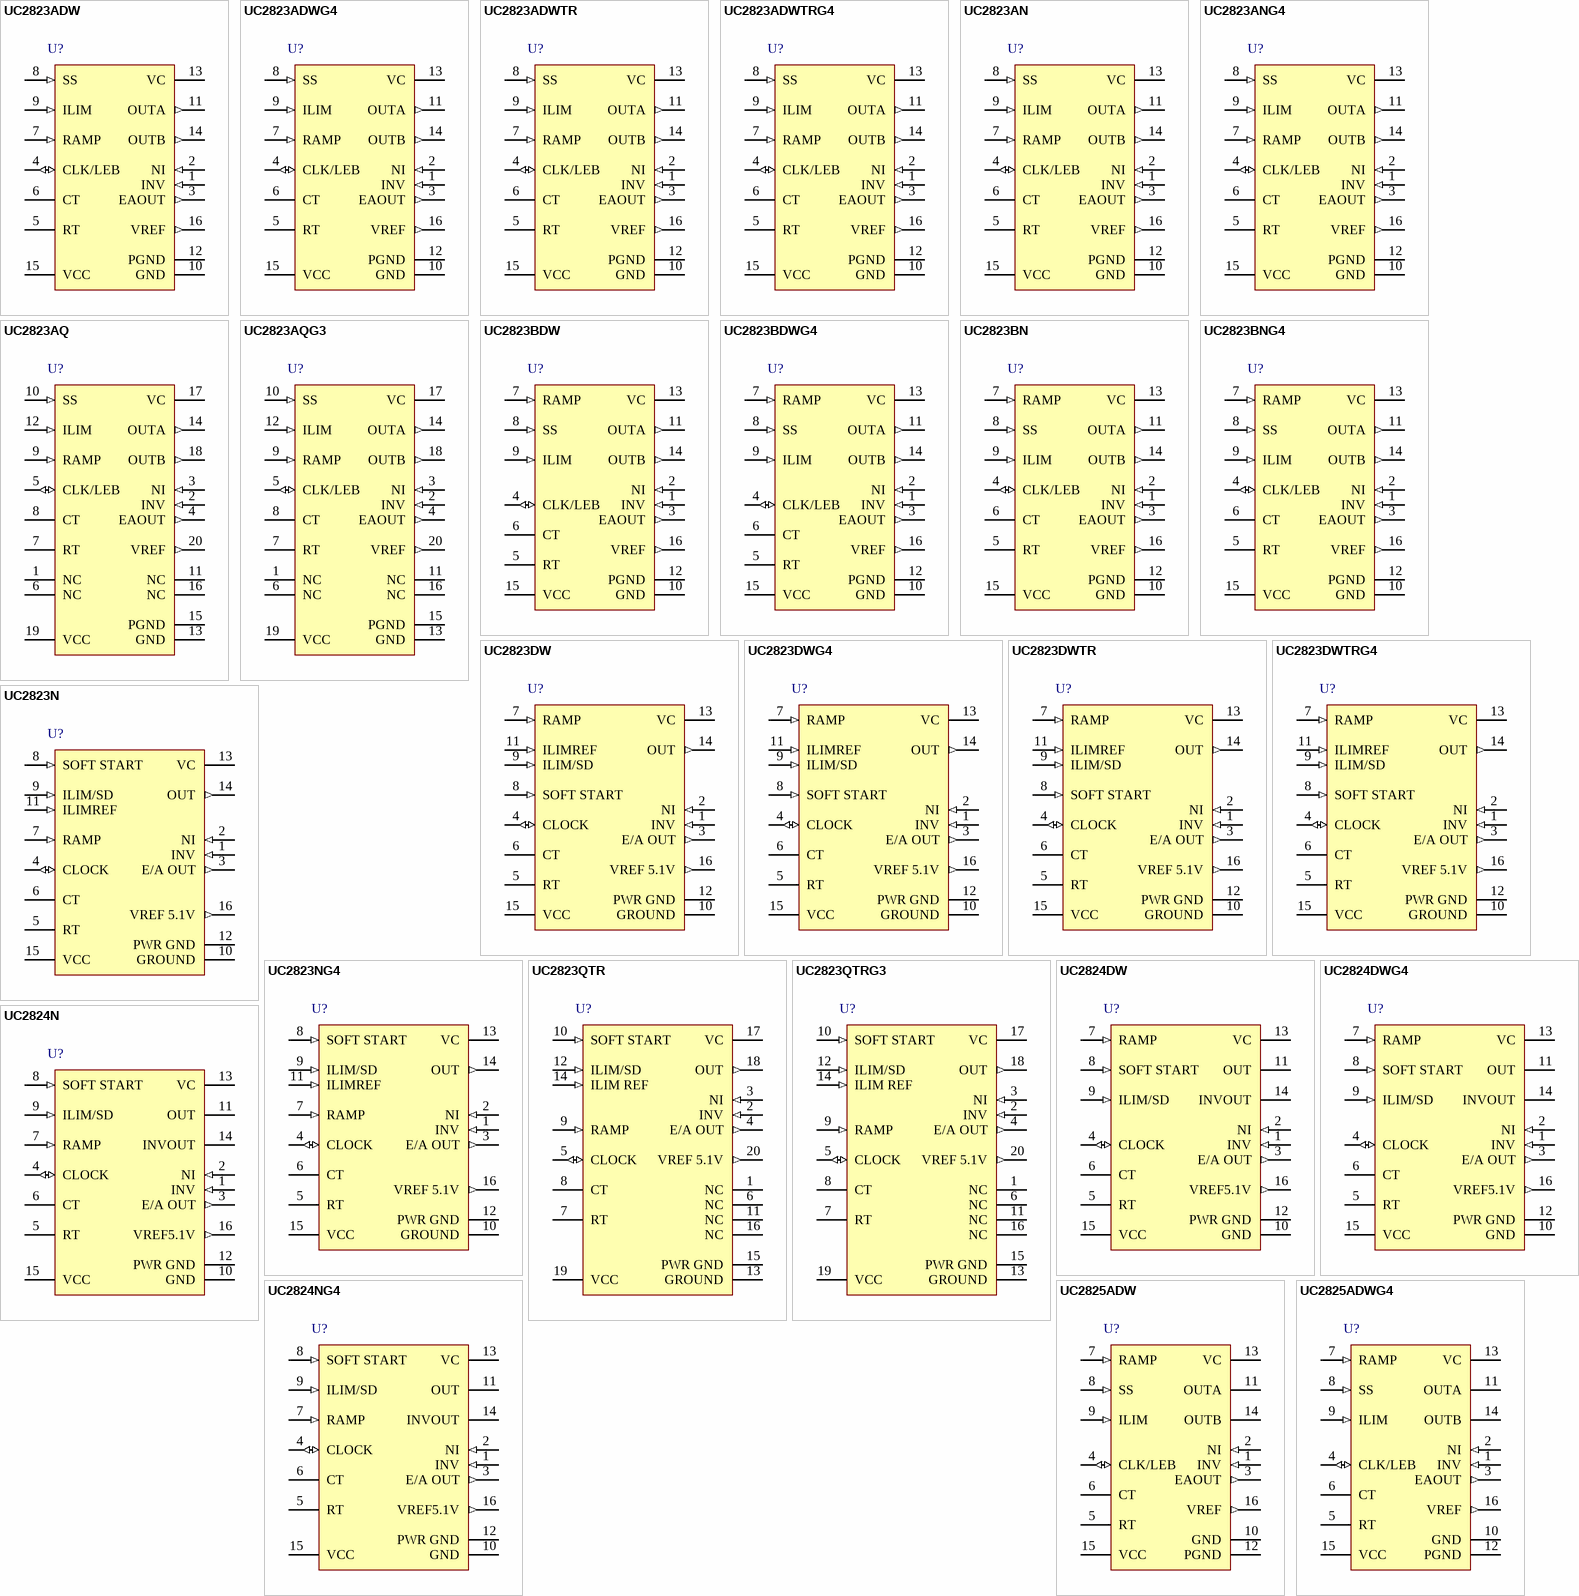
[diagram p18: symbols UC2823ADW to UC2825ADWG4]

## UC2823ADW
designator U?
High-Speed PWM Controller with Current Control, 100 % Duty Cycle, -40 to +85 degC, 16-pin SOIC (DW), Green (RoHS & no Sb/Br); PartNumber: UC2823ADW; Manufacturer: Texas Instruments; Duty Cycle(Max)(%): 100; Frequency(Max)(kHz): 1000; Rating: Catalog; Regulated Outputs(#): 1; Topology: Boost, Buck, Flyback, Forward; UVLO Thresholds On/Off(V): 16/10; DatasheetVersion: SLUS334E; PackageVersion: revG, Jan-2011; PackageReference: DW16; PackageDescription: 16-Pin Small Outline Integrated Circuit, 10.3 x 7.5 mm, Pitch 1.27 mm Pitch; Supplier 1: Digi-Key; Supplier Part Number 1: 296-2488-5-ND; Supplier 2: Newark; Supplier Part Number 2: 74K3998; Supplier 3: Mouser; Supplier Part Number 3: 595-UC2823ADW; Control Method: Current; Eco-Plan: Green (RoHS & no Sb/Br); SubFamily: PWM Controller; Mounting Technology: Surface Mount; Code_JEDEC: MS-013-AA; ComponentLink1Description: Datasheet; ComponentLink1URL: http://www.ti.com/general/docs/lit/getliterature.tsp?genericPartNumber=UC2823A&fileType=pdf
footprint DW16_N (SOIC, 16-Leads, Body 10.3x7.5mm, Pitch 1.27mm, IPC Medium Density)
footprint DW16_L (SOIC, 16-Leads, Body 10.3x7.5mm, Pitch 1.27mm, IPC High Density)
footprint DW16_M (SOIC, 16-Leads, Body 10.3x7.5mm, Pitch 1.27mm, IPC Low Density)
pins: 1 INV (in) "Inverting input to the error amplifier", 2 NI (in) "Non-inverting input to the error amplifier", 3 EAOUT (out) "Output of the error amplifier for compensation", 4 CLK/LEB (io) "Output of the internal oscillator", 5 RT "Timing resistor connection pin for oscillator frequency programming", 6 CT "Timing capacitor connection pin for oscillator frequency programming. The timing capacitor should 7", 7 RAMP (in) "Non-inverting input to the PWM comparator with 1.25-V internal input offset. In voltage mode operation, this serves as the input voltage feed-forward function by using the CT ramp. In peak current mode operation, this serves (See Datasheet)", 8 SS (in) "Soft-start input pin which also doubles as the maximum duty cycle clamp.", 9 ILIM (in) "Input to the current limit comparator.", 10 GND (power) "Analog ground return pin.", 11 OUTA (out) "High current totem pole output A of the on-chip drive stage.", 12 PGND (power) "Ground return pin for the output driver stage", 13 VC (power) "Power supply pin for the output stage. This pin should be bypassed with a 0.1uF monolithic ceramic low ESL capacitor with minimal trace lengths.", 14 OUTB (out) "High current totem pole output B of the on-chip drive stage.", 15 VCC (power) "Power supply pin for the device. This pin should be bypassed with a 0.1uF monolithic ceramic low ESL capacitor with minimal trace lengths", 16 VREF (out) "5.1-V reference. For stability, the reference should be bypassed with a 0.1uF monolithic ceramic low ESL capacitor and minimal trace length to the ground plane."

## UC2823ADWG4
designator U?
High-Speed PWM Controller with Current control, 100 % Duty Cycle, -40 to +85 degC, 16-pin SOIC (DW), Green (RoHS & no Sb/Br); PartNumber: UC2823ADWG4; Manufacturer: Texas Instruments; Duty Cycle(Max)(%): 100; Frequency(Max)(kHz): 1000; Rating: Catalog; Regulated Outputs(#): 1; Topology: Boost, Buck, Flyback, Forward; UVLO Thresholds On/Off(V): 16/10; DatasheetVersion: SLUS334E; PackageVersion: revG, Jan-2011; PackageReference: DW16; PackageDescription: 16-Pin Small Outline Integrated Circuit, 10.3 x 7.5 mm, Pitch 1.27 mm Pitch; Supplier 1: Digi-Key; Supplier Part Number 1: UC2823ADWG4-ND; Supplier 2: Newark; Supplier Part Number 2: 02M4377; Supplier 3: Mouser; Supplier Part Number 3: 595-UC2823ADWG4; Control Method: Current; Eco-Plan: Green (RoHS & no Sb/Br); SubFamily: PWM Controller; Mounting Technology: Surface Mount; Code_JEDEC: MS-013-AA; ComponentLink1Description: Datasheet; ComponentLink1URL: http://www.ti.com/general/docs/lit/getliterature.tsp?genericPartNumber=UC2823A&fileType=pdf
footprint DW16_N (SOIC, 16-Leads, Body 10.3x7.5mm, Pitch 1.27mm, IPC Medium Density)
footprint DW16_L (SOIC, 16-Leads, Body 10.3x7.5mm, Pitch 1.27mm, IPC High Density)
footprint DW16_M (SOIC, 16-Leads, Body 10.3x7.5mm, Pitch 1.27mm, IPC Low Density)
pins: 1 INV (in) "Inverting input to the error amplifier", 2 NI (in) "Non-inverting input to the error amplifier", 3 EAOUT (out) "Output of the error amplifier for compensation", 4 CLK/LEB (io) "Output of the internal oscillator", 5 RT "Timing resistor connection pin for oscillator frequency programming", 6 CT "Timing capacitor connection pin for oscillator frequency programming. The timing capacitor should 7", 7 RAMP (in) "Non-inverting input to the PWM comparator with 1.25-V internal input offset. In voltage mode operation, this serves as the input voltage feed-forward function by using the CT ramp. In peak current mode operation, this serves (See Datasheet)", 8 SS (in) "Soft-start input pin which also doubles as the maximum duty cycle clamp.", 9 ILIM (in) "Input to the current limit comparator.", 10 GND (power) "Analog ground return pin.", 11 OUTA (out) "High current totem pole output A of the on-chip drive stage.", 12 PGND (power) "Ground return pin for the output driver stage", 13 VC (power) "Power supply pin for the output stage. This pin should be bypassed with a 0.1uF monolithic ceramic low ESL capacitor with minimal trace lengths.", 14 OUTB (out) "High current totem pole output B of the on-chip drive stage.", 15 VCC (power) "Power supply pin for the device. This pin should be bypassed with a 0.1uF monolithic ceramic low ESL capacitor with minimal trace lengths", 16 VREF (out) "5.1-V reference. For stability, the reference should be bypassed with a 0.1uF monolithic ceramic low ESL capacitor and minimal trace length to the ground plane."

## UC2823ADWTR
designator U?
High-Speed PWM Controller with Current Control, 100 % Duty Cycle, -40 to +85 degC, 16-pin SOIC (DW), Green (RoHS & no Sb/Br); PartNumber: UC2823ADWTR; Manufacturer: Texas Instruments; Duty Cycle(Max)(%): 100; Frequency(Max)(kHz): 1000; Rating: Catalog; Regulated Outputs(#): 1; Topology: Boost, Buck, Flyback, Forward; UVLO Thresholds On/Off(V): 16/10; DatasheetVersion: SLUS334E; PackageVersion: revG, Jan-2011; PackageReference: DW16; PackageDescription: 16-Pin Small Outline Integrated Circuit, 10.3 x 7.5 mm, Pitch 1.27 mm Pitch; Supplier 1: Digi-Key; Supplier Part Number 1: UC2823ADWTR-ND; Supplier 2: Newark; Supplier Part Number 2: 77C2887; Supplier 3: Mouser; Supplier Part Number 3: 595-UC2823ADWTR; Control Method: Current; Eco-Plan: Green (RoHS & no Sb/Br); SubFamily: PWM Controller; Mounting Technology: Surface Mount; Code_JEDEC: MS-013-AA; ComponentLink1Description: Datasheet; ComponentLink1URL: http://www.ti.com/general/docs/lit/getliterature.tsp?genericPartNumber=UC2823A&fileType=pdf
footprint DW16_N (SOIC, 16-Leads, Body 10.3x7.5mm, Pitch 1.27mm, IPC Medium Density)
footprint DW16_L (SOIC, 16-Leads, Body 10.3x7.5mm, Pitch 1.27mm, IPC High Density)
footprint DW16_M (SOIC, 16-Leads, Body 10.3x7.5mm, Pitch 1.27mm, IPC Low Density)
pins: 1 INV (in) "Inverting input to the error amplifier", 2 NI (in) "Non-inverting input to the error amplifier", 3 EAOUT (out) "Output of the error amplifier for compensation", 4 CLK/LEB (io) "Output of the internal oscillator", 5 RT "Timing resistor connection pin for oscillator frequency programming", 6 CT "Timing capacitor connection pin for oscillator frequency programming. The timing capacitor should 7", 7 RAMP (in) "Non-inverting input to the PWM comparator with 1.25-V internal input offset. In voltage mode operation, this serves as the input voltage feed-forward function by using the CT ramp. In peak current mode operation, this serves (See Datasheet)", 8 SS (in) "Soft-start input pin which also doubles as the maximum duty cycle clamp.", 9 ILIM (in) "Input to the current limit comparator.", 10 GND (power) "Analog ground return pin.", 11 OUTA (out) "High current totem pole output A of the on-chip drive stage.", 12 PGND (power) "Ground return pin for the output driver stage", 13 VC (power) "Power supply pin for the output stage. This pin should be bypassed with a 0.1uF monolithic ceramic low ESL capacitor with minimal trace lengths.", 14 OUTB (out) "High current totem pole output B of the on-chip drive stage.", 15 VCC (power) "Power supply pin for the device. This pin should be bypassed with a 0.1uF monolithic ceramic low ESL capacitor with minimal trace lengths", 16 VREF (out) "5.1-V reference. For stability, the reference should be bypassed with a 0.1uF monolithic ceramic low ESL capacitor and minimal trace length to the ground plane."

## UC2823ADWTRG4
designator U?
High-Speed PWM Controller with Current Control, 100 % Duty Cycle, -40 to +85 degC, 16-pin SOIC (DW), Green (RoHS & no Sb/Br); PartNumber: UC2823ADWTRG4; Manufacturer: Texas Instruments; Duty Cycle(Max)(%): 100; Frequency(Max)(kHz): 1000; Rating: Catalog; Regulated Outputs(#): 1; Topology: Boost, Buck, Flyback, Forward; UVLO Thresholds On/Off(V): 16/10; DatasheetVersion: SLUS334E; PackageVersion: revG, Jan-2011; PackageReference: DW16; PackageDescription: 16-Pin Small Outline Integrated Circuit, 10.3 x 7.5 mm, Pitch 1.27 mm Pitch; Supplier 1: Digi-Key; Supplier Part Number 1: UC2823ADWTRG4-ND; Supplier 2: Newark; Supplier Part Number 2: 63K6669; Supplier 3: Mouser; Supplier Part Number 3: 595-UC2823ADWTRG4; Control Method: Current; Eco-Plan: Green (RoHS & no Sb/Br); SubFamily: PWM Controller; Mounting Technology: Surface Mount; Code_JEDEC: MS-013-AA; ComponentLink1Description: Datasheet; ComponentLink1URL: http://www.ti.com/general/docs/lit/getliterature.tsp?genericPartNumber=UC2823A&fileType=pdf
footprint DW16_N (SOIC, 16-Leads, Body 10.3x7.5mm, Pitch 1.27mm, IPC Medium Density)
footprint DW16_L (SOIC, 16-Leads, Body 10.3x7.5mm, Pitch 1.27mm, IPC High Density)
footprint DW16_M (SOIC, 16-Leads, Body 10.3x7.5mm, Pitch 1.27mm, IPC Low Density)
pins: 1 INV (in) "Inverting input to the error amplifier", 2 NI (in) "Non-inverting input to the error amplifier", 3 EAOUT (out) "Output of the error amplifier for compensation", 4 CLK/LEB (io) "Output of the internal oscillator", 5 RT "Timing resistor connection pin for oscillator frequency programming", 6 CT "Timing capacitor connection pin for oscillator frequency programming. The timing capacitor should 7", 7 RAMP (in) "Non-inverting input to the PWM comparator with 1.25-V internal input offset. In voltage mode operation, this serves as the input voltage feed-forward function by using the CT ramp. In peak current mode operation, this serves (See Datasheet)", 8 SS (in) "Soft-start input pin which also doubles as the maximum duty cycle clamp.", 9 ILIM (in) "Input to the current limit comparator.", 10 GND (power) "Analog ground return pin.", 11 OUTA (out) "High current totem pole output A of the on-chip drive stage.", 12 PGND (power) "Ground return pin for the output driver stage", 13 VC (power) "Power supply pin for the output stage. This pin should be bypassed with a 0.1uF monolithic ceramic low ESL capacitor with minimal trace lengths.", 14 OUTB (out) "High current totem pole output B of the on-chip drive stage.", 15 VCC (power) "Power supply pin for the device. This pin should be bypassed with a 0.1uF monolithic ceramic low ESL capacitor with minimal trace lengths", 16 VREF (out) "5.1-V reference. For stability, the reference should be bypassed with a 0.1uF monolithic ceramic low ESL capacitor and minimal trace length to the ground plane."

## UC2823AN
designator U?
High-Speed PWM Controller with Current Control, 100 % Duty Cycle, -40 to +85 degC, 16-pin PDIP (N), Green (RoHS & no Sb/Br); PartNumber: UC2823AN; Manufacturer: Texas Instruments; Duty Cycle(Max)(%): 100; Frequency(Max)(kHz): 1000; Rating: Catalog; Regulated Outputs(#): 1; Topology: Boost, Buck, Flyback, Forward; UVLO Thresholds On/Off(V): 16/10; DatasheetVersion: SLUS334E; PackageVersion: revE, Dec-2002; PackageReference: N16; PackageDescription: 16-Pin Plastic Dual-In-Line Package, Row Spacing 7.62 mm, Pitch 2.54 mm; Supplier 1: Digi-Key; Supplier Part Number 1: 296-11166-5-ND; Supplier 2: Newark; Supplier Part Number 2: 77C2888; Supplier 3: Mouser; Supplier Part Number 3: 595-UC2823AN; Control Method: Current; Eco-Plan: Green (RoHS & no Sb/Br); SubFamily: PWM Controller; Mounting Technology: Through Hole; Code_JEDEC: MS-001*; ComponentLink1Description: Datasheet; ComponentLink1URL: http://www.ti.com/general/docs/lit/getliterature.tsp?genericPartNumber=UC2823A&fileType=pdf
footprint N16 (DIP, 16-Leads, Row Spacing 7.62mm, Pitch 2.54mm, Body 19.3x6.4mm)
pins: 1 INV (in) "Inverting input to the error amplifier", 2 NI (in) "Non-inverting input to the error amplifier", 3 EAOUT (out) "Output of the error amplifier for compensation", 4 CLK/LEB (io) "Output of the internal oscillator", 5 RT "Timing resistor connection pin for oscillator frequency programming", 6 CT "?Timing capacitor connection pin for oscillator frequency programming. The timing capacitor should be connected to the device ground using minimal trace length.", 7 RAMP (in) "Non-inverting input to the PWM comparator with 1.25-V internal input offset. In voltage mode operation, this serves as the input voltage feed-forward function by using the CT ramp. In peak current mode operation, this serves (See Datasheet)", 8 SS (in) "Soft-start input pin which also doubles as the maximum duty cycle clamp.", 9 ILIM (in) "Input to the current limit comparator", 10 GND (power) "Analog ground return pin", 11 OUTA (out) "High current totem pole output A of the on-chip drive stage.", 12 PGND (power) "Ground return pin for the output driver stage", 13 VC (power) "Power supply pin for the output stage. This pin should be bypassed with a 0.1-uF monolithic ceramic low ESL capacitor with minimal trace lengths.", 14 OUTB (out) "High current totem pole output B of the on-chip drive stage.", 15 VCC (power) "Power supply pin for the device. This pin should be bypassed with a 0.1-uF monolithic ceramic low ESL capacitor with minimal trace lengths", 16 VREF (out) "5.1-V reference. For stability, the reference should be bypassed with a 0.1-uF monolithic ceramic low ESL capacitor and minimal trace length to the ground plane."

## UC2823ANG4
designator U?
High-Speed PWM Controller with Current Control, 100 % Duty Cycle, -40 to +85 degC, 16-pin PDIP (N), Green (RoHS & no Sb/Br); PartNumber: UC2823ANG4; Manufacturer: Texas Instruments; Duty Cycle(Max)(%): 100; Frequency(Max)(kHz): 1000; Rating: Catalog; Regulated Outputs(#): 1; Topology: Boost, Buck, Flyback, Forward; UVLO Thresholds On/Off(V): 16/10; DatasheetVersion: SLUS334E; PackageVersion: revE, Dec-2002; PackageReference: N16; PackageDescription: 16-Pin Plastic Dual-In-Line Package, Row Spacing 7.62 mm, Pitch 2.54 mm; Supplier 1: Digi-Key; Supplier Part Number 1: UC2823ANG4-ND; Supplier 2: Newark; Supplier Part Number 2: 61K1988; Supplier 3: Mouser; Supplier Part Number 3: 595-UC2823ANG4; Control Method: Current; Eco-Plan: Green (RoHS & no Sb/Br); SubFamily: PWM Controller; Mounting Technology: Through Hole; Code_JEDEC: MS-001*; ComponentLink1Description: Datasheet; ComponentLink1URL: http://www.ti.com/general/docs/lit/getliterature.tsp?genericPartNumber=UC2823A&fileType=pdf
footprint N16 (DIP, 16-Leads, Row Spacing 7.62mm, Pitch 2.54mm, Body 19.3x6.4mm)
pins: 1 INV (in) "Inverting input to the error amplifier", 2 NI (in) "Non-inverting input to the error amplifier", 3 EAOUT (out) "Output of the error amplifier for compensation", 4 CLK/LEB (io) "Output of the internal oscillator", 5 RT "Timing resistor connection pin for oscillator frequency programming", 6 CT "?Timing capacitor connection pin for oscillator frequency programming. The timing capacitor should be connected to the device ground using minimal trace length.", 7 RAMP (in) "Non-inverting input to the PWM comparator with 1.25-V internal input offset. In voltage mode operation, this serves as the input voltage feed-forward function by using the CT ramp. In peak current mode operation, this serves (See Datasheet)", 8 SS (in) "Soft-start input pin which also doubles as the maximum duty cycle clamp.", 9 ILIM (in) "Input to the current limit comparator", 10 GND (power) "Analog ground return pin", 11 OUTA (out) "High current totem pole output A of the on-chip drive stage.", 12 PGND (power) "Ground return pin for the output driver stage", 13 VC (power) "Power supply pin for the output stage. This pin should be bypassed with a 0.1-uF monolithic ceramic low ESL capacitor with minimal trace lengths.", 14 OUTB (out) "High current totem pole output B of the on-chip drive stage.", 15 VCC (power) "Power supply pin for the device. This pin should be bypassed with a 0.1-uF monolithic ceramic low ESL capacitor with minimal trace lengths", 16 VREF (out) "5.1-V reference. For stability, the reference should be bypassed with a 0.1-uF monolithic ceramic low ESL capacitor and minimal trace length to the ground plane."

## UC2823AQ
designator U?
High-Speed PWM Controller with Current Control, 100 % Duty Cycle, -40 to +85 degC, 20-pin PLCC (FN), Green (RoHS & no Sb/Br); PartNumber: UC2823AQ; Manufacturer: Texas Instruments; Duty Cycle(Max)(%): 100; Frequency(Max)(kHz): 1000; Rating: Catalog; Regulated Outputs(#): 1; Topology: Boost, Buck, Flyback, Forward; UVLO Thresholds On/Off(V): 16/10; DatasheetVersion: SLUS334E; PackageVersion: revB, Mar-1995; PackageReference: FN20; PackageDescription: 20-Pin Plastic Leaded Chip Carrier, 1.27 mm Pitch; Supplier 1: Digi-Key; Supplier Part Number 1: UC2823AQ-ND; Supplier 2: Newark; Supplier Part Number 2: 77C2889; Supplier 3: Mouser; Supplier Part Number 3: 595-UC2823AQ; Control Method: Current; Eco-Plan: Green (RoHS & no Sb/Br); SubFamily: PWM Controller; Mounting Technology: Surface Mount; Code_JEDEC: MS-018; ComponentLink1Description: Datasheet; ComponentLink1URL: http://www.ti.com/general/docs/lit/getliterature.tsp?genericPartNumber=UC2823A&fileType=pdf
footprint FN20_N (Leaded Chip Carrier, 20-Leads, Body 9x9mm, Pitch 1.27mm, IPC Medium Density)
footprint FN20_L (Leaded Chip Carrier, 20-Leads, Body 9x9mm, Pitch 1.27mm, IPC High Density)
footprint FN20_M (Leaded Chip Carrier, 20-Leads, Body 9x9mm, Pitch 1.27mm, IPC Low Density)
pins: 1 NC "No connection", 2 INV (in) "Inverting input to the error amplifier", 3 NI (in) "Non-inverting input to the error amplifier", 4 EAOUT (out) "Output of the error amplifier for compensation", 5 CLK/LEB (io) "Output of the internal oscillator", 6 NC "No connection", 7 RT "Timing resistor connection pin for oscillator frequency programming", 8 CT "Timing capacitor connection pin for oscillator frequency programming. The timing capacitor should be connected to the device ground using minimal trace length.", 9 RAMP (in) "Non-inverting input to the PWM comparator with 1.25-V internal input offset. In voltage mode operation, this serves as the input voltage feed-forward function by using the CT ramp. In peak current mode operation, this serves (See Datasheet)", 10 SS (in) "Soft-start input pin which also doubles as the maximum duty cycle clamp.", 11 NC "No connection", 12 ILIM (in) "Input to the current limit comparator", 13 GND (power) "Analog ground return pin", 14 OUTA (out) "High current totem pole output A of the on-chip drive stage.", 15 PGND (power) "Ground return pin for the output driver stage", 16 NC "No connection", 17 VC (power) "Power supply pin for the output stage. This pin should be bypassed with a 0.1-uF monolithic ceramic low ESL capacitor with minimal trace lengths.", 18 OUTB (out) "High current totem pole output B of the on-chip drive stage.", 19 VCC (power) "Power supply pin for the device. This pin should be bypassed with a 0.1-uF monolithic ceramic low ESL capacitor with minimal trace lengths", 20 VREF (out) "5.1-V reference. For stability, the reference should be bypassed with a 0.1-uF monolithic ceramic low ESL capacitor and minimal trace length to the ground plane."